# EAGLE library part MC14548X (library m-pad-2.1)
Motorola's MC145481 3V PCM Codec-Filter and MC145483 13-bit linear PCM Codec-Filter The MC145481 is a general purpose per channel PCM Codec-Filter with pin selectable Mu-Law or A-Law companding, and is offered in 20-pin SOG and SSOP packages. This device performs the voice digitization and reconstruction as well as the band limiting and smoothing required for PCM systems. This device is designed to operate in both synchronous and asynchronous applications and contains an on-chip precision reference voltage. This device has an input operational amplifier whose output is the input to the encoder section. The encoder section immediately low-pass filters the analog signal with an active R-C filter to eliminate very high frequency noise from being modulated down to the passband by the switched capacitor filter. From the active R-C filter, the analog signal is converted to a differential signal. From this point, all analog signal processing is done differentially. This allows processing of an analog signal that is twice the amplitude allowed by a single-ended design, which reduces the significance of noise to both the inverted and non-inverted signal paths. Another advantage of this differential design is that noise injected via the power supplies is a common-mode signal that is cancelled when the inverted and non-inverted signals are recombined. This dramatically improves the power supply rejection ratio. After the differential converter, a differential switched capacitor filter bandpasses the analog signal from 200 Hz to 3400 Hz before the signal is digitized by the differential compressing A/D converter. The decoder accepts PCM data and expands it using a differential D/A converter. The output of the D/A is low-pass filtered at 3400 Hz and sinX/X compensated by a differential switched capacitor filter. The signal is then filtered by an active R-C filter to eliminate the out-of-band energy of the switched capacitor filter. The MC145481 PCM Codec-Filter has a high impedance VAG reference pin which allows for decoupling of the internal circuitry that generates the mid-supply VAG reference voltage to the VSS power supply ground. This reduces clock noise on the analog circuitry when external analog signals are referenced to the power supply ground. The MC145481 PCM Codec-Filter accepts a variety of clock formats, including Short Frame Sync, Long Frame Sync, IDL, and GCI timing environments. This device also maintains compatibility with Motorola's family of Telecommunication products, including the MC14LC5472 and MC145572 U-Interface Transceivers, MC145474/75 and MC145574 S/T-Interface Transceivers, MC145532 ADPCM Transcoder, MC145422/26 UDLT-1, MC145421/25 UDLT-2, and MC3419/MC33120 SLICs. The MC145481 PCM Codec-Filter utilizes CMOS due to its reliable low-power performance and proven capability for complex analog/digital VLSI functions. Features: Single 2.7 to 5.25 V Power Supply Typical Power Dissipation of 8 mW @ 3 V, Power-Down of 0.01 mW Fully-Differential Analog Circuit Design for Lowest Noise Transmit Band-Pass and Receive Low-Pass Filters On-Chip Active R-C Pre-Filtering and Post-Filtering Mu-Law and A-Law Companding by Pin Selection On-Chip Precision Reference Voltage of 0.886 V for a ? 5 dBm TLP @ 600 W Push-Pull 300 W Power Drivers with External Gain Adjust The MC145483 is a 13-bit linear PCM Codec-Filter with 2s complement data format, and is offered in 20-pin SOG and SSOP packages. This device performs the voice digitization and reconstruction as well as the band limiting and smoothing required for the voice coding in digital communication systems. This device is designed to operate in both synchronous and asynchronous applications and contains an on-chip precision reference voltage. This device has an input operational amplifier whose output is the input to the encoder section. The encoder section immediately low-pass filters the analog signal with an active R-C filter to eliminate very high frequency noise from being modulated down to the passband by the switched capacitor filter. From the active R-C filter, the analog signal is converted to a differential signal. From this point, all analog signal processing is done differentially. This allows processing of an analog signal that is twice the amplitude allowed by a single-ended design, which reduces the significance of noise to both the inverted and non-inverted signal paths. Another advantage of this differential design is that noise injected via the power supplies is a common-mode signal that is cancelled when the inverted and non-inverted signals are recombined. This dramatically improves the power supply rejection ratio. After the differential converter, a differential switched capacitor filter bandpasses the analog signal from 200 Hz to 3400 Hz before the signal is digitized by the differential 13-bit linear A/D converter. The digital output is 2s complement format. The decoder digital input accepts 2s complement data and reconstructs it using a differential 13-bit linear D/A converter. The output of the D/A is low-pass filtered at 3400 Hz and sinX/X compensated by a differential switched capacitor filter. The signal is then filtered by an active R-C filter to eliminate the out-of-band energy of the switched capacitor filter. The MC145483 PCM Codec-Filter has a high impedance VAG reference pin which allows for decoupling of the internal circuitry that generates the mid-supply VAG reference voltage to the VSS power supply ground. This reduces clock noise on the analog circuitry when external analog signals are referenced to the power supply ground. The MC145483 13-bit linear PCM Codec-Filter accepts both Short Frame Sync and Long Frame Sync clock formats, and utilizes CMOS due to its reliable low-power performance and proven capability for complex analog/digital VLSI functions. Features: Single 3 V Power Supply 13-Bit Linear ADC/DAC Conversions with 2s Complement Data Format Typical Power Dissipation of 8 mW, Power-Down of 0.01 mW Fully-Differential Analog Circuit Design for Lowest Noise Transmit Band-Pass and Receive Low-Pass Filters On-Chip Transmit High-Pass Filter May be Bypassed by Pin Selection Active R-C Pre-Filtering and Post-Filtering On-Chip Precision Reference Voltage of 0.886 V for a - 5 dBm TLP @ 600 W 3-Terminal Input Op Amp Can be Used, or a 2-Channel Input Multiplexer Receive Gain Control from 0 dB to - 21 dB in 3 dB Steps in Synchronous Operation Push-Pull 300 W Power Drivers with External Gain Adjust Please send any comments to: messi@users.sourceforge.net
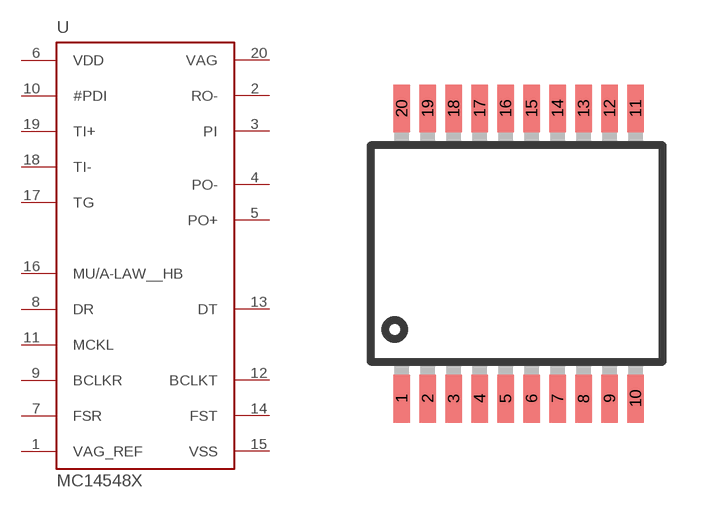
[diagram p170: symbol with the pads of SSOP20W; footprint SSOP20W]

Designator prefix U

## MC14548X-SD  [SSOP20W]
1  VAG_REF  in
2  RO-  out
3  PI  in
4  PO-  out
5  PO+  out
6  VDD  pwr
7  FSR  in
8  DR  in
9  BCLKR  in
10  #PDI  in
11  MCKL  in
12  BCLKT  out
13  DT  out
14  FST  out
15  VSS  pwr
16  MU/A-LAW__HB  in
17  TG  out
18  TI-  in
19  TI+  in
20  VAG  out

## Footprint SSOP20W (pad centres in mm)
smd 0.42 x 1.2: 1 -2.925,-3.625; 2 -2.275,-3.625; 3 -1.625,-3.625; 4 -0.975,-3.625; 5 -0.325,-3.625; 6 0.325,-3.625; 7 0.975,-3.625; 8 1.625,-3.625; 9 2.275,-3.625; 10 2.925,-3.625; 11 2.925,3.625; 12 2.275,3.625; 13 1.625,3.625; 14 0.975,3.625; 15 0.325,3.625; 16 -0.325,3.625; 17 -0.975,3.625; 18 -1.625,3.625; 19 -2.275,3.625; 20 -2.925,3.625